# Altium footprint library Magway.PcbLib: 38 footprints (part 1 of 3)
Each footprint in its own frame and in the unit in brackets; x right, y up, seen from the top. Pads: shape width x height; smd on the part's side, far side on the other; paste and mask are expansions set on the pad; w line width, h text height; cw(c..) or ccw(c..) is an arc to the next point about the centre after c.
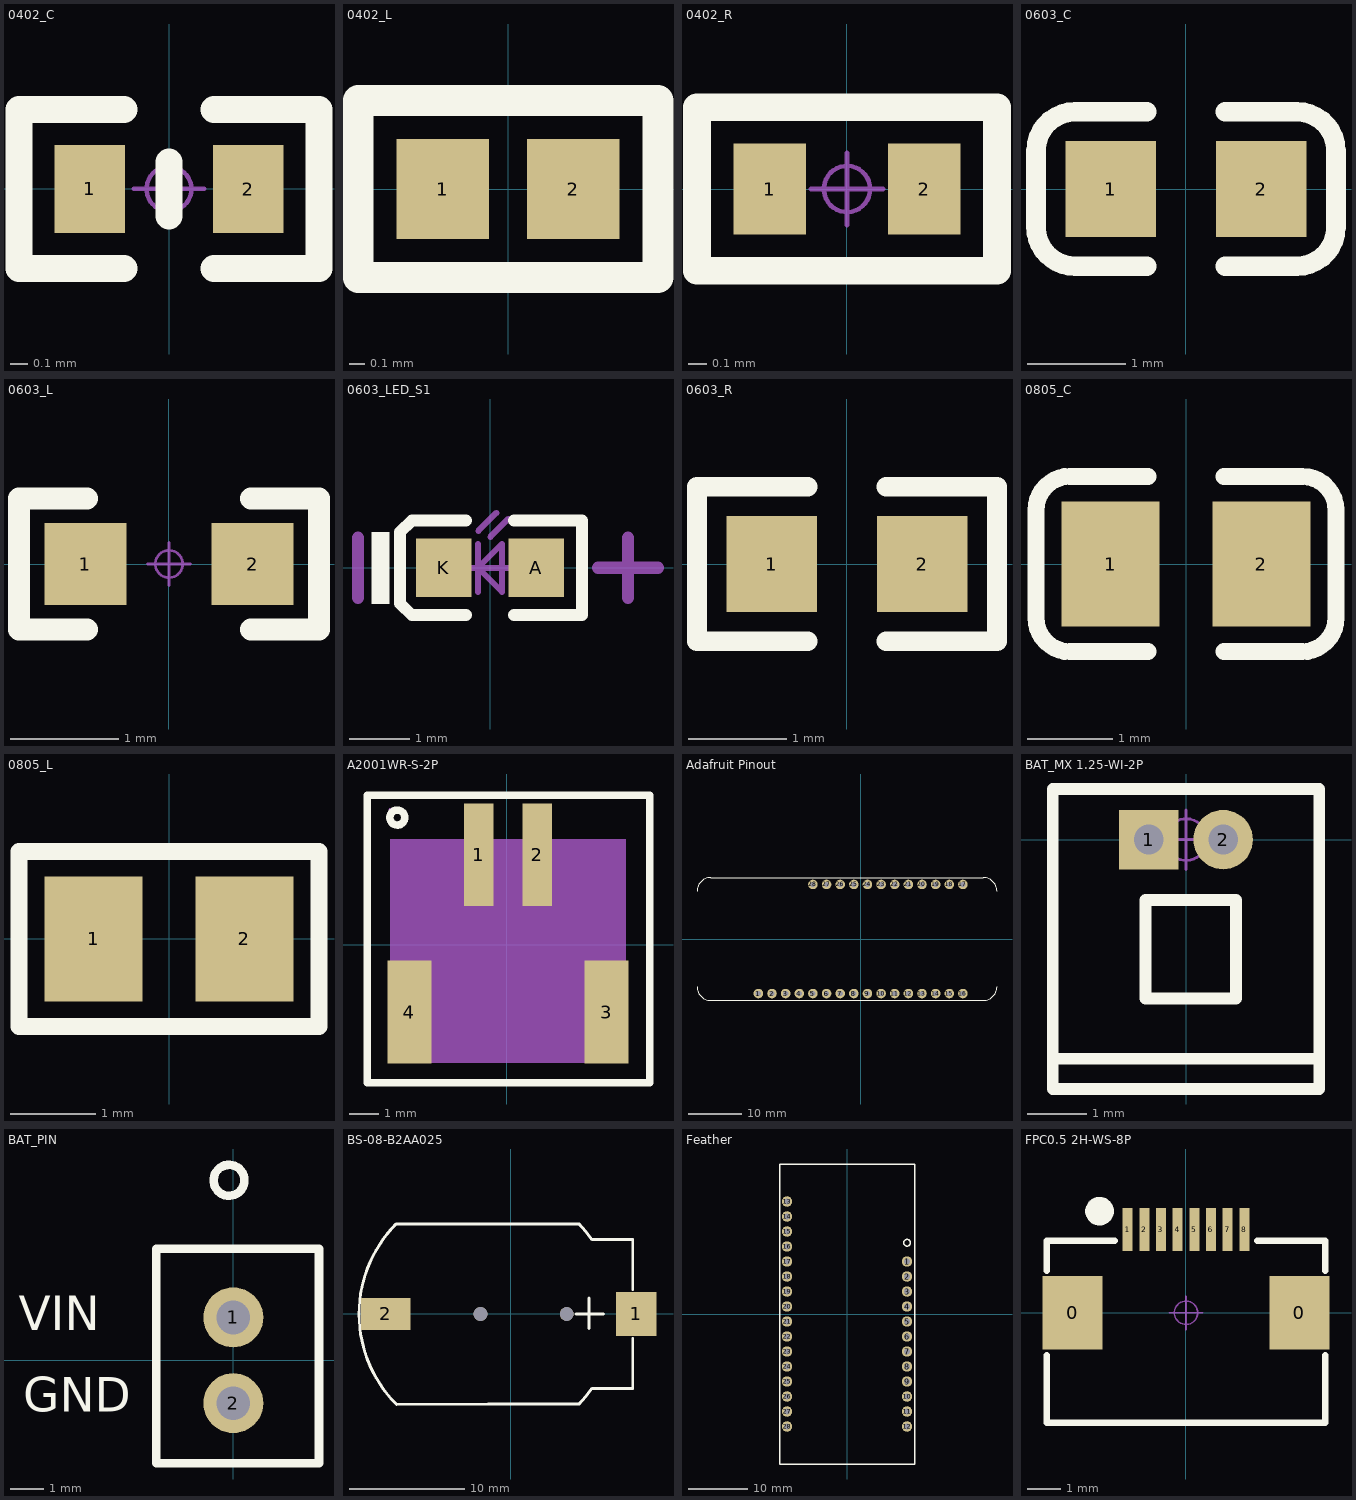
[diagram p0: the footprints below, top view; thin cyan lines are the x and y axes]

## 0402_C [mm] "无极性贴片电容"
pads (2):
  rect 0.4x0.5 smd: 1(-0.45,0) 2(0.45,0)
Top Overlay:
  lines w0.152: -0.254,-0.45 -0.85,-0.45 ; -0.254,0.45 -0.85,0.45 -0.85,-0.45 ; 0,-0.152 0,0.152 ; 0.254,-0.45 0.85,-0.45 0.85,0.45 0.254,0.45 ; -0.85,-0.45 -0.85,-0.45
Mechanical 15:
  circle w0.025: c0,0 r0.127
  lines w0.025: -0.2,0 0.2,0 ; 0,-0.2 0,0.2
3D body "C 0402.STEP": height 0.54, standoff 0.02, extent -0.5,-0.26 0.5,0.26

## 0402_L [mm]
pads (2):
  rect 0.6x0.65 smd mask+0.051: 1(-0.425,0) 2(0.425,0)
Top Overlay:
  lines w0.2: -0.975,-0.575 0.975,-0.575 0.975,0.575 -0.975,0.575 -0.975,-0.575
3D body "L0402.STEP": height 0.36, standoff -0.01, extent -0.512,-0.262 0.538,0.263

## 0402_R [mm] "1/16W贴片电阻"
pads (2):
  rect 0.4x0.5 smd: 1(-0.425,0) 2(0.425,0)
Top Overlay:
  lines w0.152: -0.825,-0.45 -0.825,0.45 0.825,0.45 0.825,-0.45 -0.825,-0.45
Mechanical 15:
  circle w0.025: c0,0 r0.127
  lines w0.025: -0.2,0 0.2,0 ; 0,-0.2 0,0.2
3D body "R0402.STEP": height 0.3, standoff 0, extent -0.5,-0.25 0.5,0.25

## 0603_C [mm]
pads (2):
  rect 0.93x0.98 smd: 1(-0.77,0) 2(0.77,0)
Top Overlay:
  lines w0.2: -0.4,-0.79 -1.135,-0.79 cw(c-1.135,-0.39) -1.535,-0.39 -1.535,0.39 cw(c-1.135,0.39) -1.135,0.79 -0.4,0.79 ; 0.4,-0.79 1.135,-0.79 ccw(c1.135,-0.39) 1.535,-0.39 1.535,0.39 ccw(c1.135,0.39) 1.135,0.79 0.4,0.79
3D body "User Library-0603 SMD Capacitor.STEP": height 0.3, standoff 0, extent -0.8,-0.4 0.8,0.4

## 0603_L [mil] "小功率贴片电感"
pads (2):
  rect 30x30 smd: 1(-30.59,0) 2(30.59,0)
Top Overlay:
  lines w8: -30,-24 -54.82,-24 -54.82,24 -30,24 ; 30,-24 54.83,-24 54.83,24 30,24
Mechanical 15:
  circle w1: c0,0 r5
  lines w1: -7.87,0 7.88,0 ; 0,-7.87 0,7.88
3D body "l0603.STEP": height 31.5, standoff 0, extent -31.49,-15.74 31.51,15.76

## 0603_LED_S1 [mm]
pads (2):
  rect 0.93x0.98 smd: A(0.77,0) K(-0.77,0)
Top Overlay:
  rectangle: -1.975,-0.6 -1.675,0.6
  lines w0.2: -0.4,-0.79 -1.3,-0.79 -1.5,-0.597 -1.5,0.597 -1.3,0.79 -0.4,0.79 ; 0.4,-0.79 1.535,-0.79 1.535,0.79 0.4,0.79
Mechanical 13:
  lines w0.1: -0.4,0 0.4,0 ; -0.2,-0.4 -0.2,0.4 ; -0.195,0.617 0.105,0.917 ; 0.005,0.517 0.305,0.817 ; -0.2,0 0.2,0.4 0.2,-0.4 -0.2,0
Mechanical 15:
  lines w0.203: -2.2,-0.5 -2.2,0.5 ; 1.8,0 2.8,0 ; 2.3,-0.5 2.3,0.5
3D body "User Library-LED_0603_R.STEP": height 0.6, standoff 0, extent -0.8,-0.4 0.8,0.4

## 0603_R [mm]
pads (2):
  rect 0.93x0.98 smd: 1(-0.77,0) 2(0.77,0)
Top Overlay:
  lines w0.2: -0.4,-0.79 -1.535,-0.79 -1.535,0.79 -0.4,0.79 ; 0.4,-0.79 1.535,-0.79 1.535,0.79 0.4,0.79
3D body "User Library-RES_1609-0603.STEP": height 0.56, standoff 0, extent -0.85,-0.4 0.85,0.4

## 0805_C [mm]
pads (2):
  rect 1.16x1.47 smd: 1(-0.89,0) 2(0.89,0)
Top Overlay:
  lines w0.2: -0.45,-1.035 -1.37,-1.035 cw(c-1.37,-0.635) -1.77,-0.635 -1.77,0.635 cw(c-1.37,0.635) -1.37,1.035 -0.45,1.035 ; 0.45,-1.035 1.37,-1.035 ccw(c1.37,-0.635) 1.77,-0.635 1.77,0.635 ccw(c1.37,0.635) 1.37,1.035 0.45,1.035
3D body "User Library-0805 SMD Capacitor.STEP": height 0.77, standoff -0.01, extent -0.999,-0.625 1.001,0.625

## 0805_L [mm]
pads (2):
  rect 1.16x1.47 smd: 1(-0.89,0) 2(0.89,0)
Top Overlay:
  lines w0.2: -1.77,-1.035 1.77,-1.035 1.77,1.035 -1.77,1.035 -1.77,-1.035
3D body "L0805.STEP": height 0.6, standoff -0.02, extent -1.022,-0.637 1.028,0.638

## A2001WR-S-2P [mm]
pads (4):
  rect 1x3.5 smd: 1(-0.952,3.064) 2(1.048,3.064)
  rect 1.5x3.5 smd: 3(3.398,-2.286) 4(-3.302,-2.286)
Top Overlay:
  circle w0.254: c-3.716,4.326 r0.254
  lines w0.254: -4.732,-4.691 -4.732,5.088 4.874,5.088 4.874,-4.691 -4.732,-4.691
Mechanical 4:
  region: -3.952,3.589 4.048,3.589 4.048,-4.011 -3.952,-4.011
Mechanical 5:
  region: 3.598,-3.686 3.198,-3.686 3.198,-0.886 3.598,-0.886
  region: -3.102,-3.686 -3.502,-3.686 -3.502,-0.886 -3.102,-0.886
  region: 1.298,2.094 0.798,2.094 0.798,4.594 1.298,4.594
  region: -0.702,2.094 -1.202,2.094 -1.202,4.594 -0.702,4.594
Mechanical 6:
  circle w0.06: c-3.952,4.594 r0.03

## Adafruit Pinout [mil]
pads (28):
  round 70 hole 39.37: 1(-750,-400) 2(-650,-400) 3(-550,-400) 4(-450,-400) 5(-350,-400) 6(-250,-400) 7(-150,-400) 8(-50,-400) 9(50,-400) 10(150,-400) 11(250,-400) 12(350,-400) 13(450,-400) 14(550,-400) 15(650,-400) 16(750,-400) 17(750,400) 18(650,400) 19(550,400) 20(450,400) 21(350,400) 22(250,400) 23(150,400) 24(50,400) 25(-50,400) 26(-150,400) 27(-250,400) 28(-350,400)
Top Overlay:
  lines w0.31: -1200,-350 ccw(c-1100,-350) -1100,-450 900,-450 ccw(c900,-350) 1000,-350 ; -1200,350 cw(c-1100,350) -1100,450 900,450 cw(c900,350) 1000,350

## BAT_MX 1.25-WI-2P [mm] "长：4.25mm，宽：1.8mm，高：3.3mm"
pads (2):
  rect 1x1 hole 0.5: 1(-0.625,0)
  round 1 hole 0.5: 2(0.625,0)
Top Overlay:
  lines w0.2: -2.239,-3.683 2.239,-3.683 ; -2.239,-4.191 2.239,-4.191 2.239,0.85 -2.239,0.85 -2.239,-4.191 ; -0.682,-2.667 0.842,-2.667 0.842,-1.016 -0.682,-1.016 -0.682,-2.667
Mechanical 15:
  circle w0.05: c0,0 r0.35
  lines w0.05: -0.5,0 0.5,0 ; 0,-0.5 0,0.5
3D body "MOLEX1.25-WI-2P.STEP": height 3.35, standoff -2.1, extent -2.125,-4.05 2.125,0.85

## BAT_PIN [mil]
pads (2):
  round 70 hole 39.37: 1(0,50) 2(0,-50)
Top Overlay:
  circle w10: c-5,210 r18.03
  lines w10: -90,-120 100,-120 100,60 100,130 -90,130 -90,-120
  text "GND" at -245,-60 h40
  text "VIN" at -250,35 h40

## BS-08-B2AA025 [mm]
pads (4):
  rect 3.5x3.8 smd: 1(10.9,0)
  rect 4.3x2.8 smd: 2(-10.9,0)
  round 1.2 hole 1.2 unplated: ""(-2.65,0) ""(4.85,0)
Top Overlay:
  lines w0.254: -9.966,-7.858 -1.973,-7.85 5.901,-7.85 ccw(c-2.1,0) 7.047,-6.479 ; -9.966,-7.858 cw(c-2.1,0) -9.974,7.85 -1.973,7.85 5.901,7.85 ; 5.647,0 8.06,0 ; 5.899,7.848 cw(c-2.1,0) 7.044,6.477 8.844,6.477 10.6,6.477 10.6,2.131 ; 6.79,-1.27 6.79,1.397 ; 7.044,-6.477 8.844,-6.477 10.6,-6.477 10.6,-2.131
Mechanical 15:
  region: -12.156,0.308 -9.482,0.308 -9.482,-0.24 -12.151,-0.24 -12.151,-0.238
  region: 10.683,-1.296 10.683,1.378 11.231,1.378 11.231,-1.291 11.229,-1.291
  region: 9.643,0.462 12.317,0.462 12.317,-0.086 9.648,-0.086 9.648,-0.084

## Feather [mil]
pads (28):
  round 70 hole 40: 1(400,350) 2(400,250) 3(400,150) 4(400,50) 5(400,-50) 6(400,-150) 7(400,-250) 8(400,-350) 9(400,-450) 10(400,-550) 11(400,-650) 12(400,-750) 13(-400,750) 14(-400,650) 15(-400,550) 16(-400,450) 17(-400,350) 18(-400,250) 19(-400,150) 20(-400,50) 21(-400,-50) 22(-400,-150) 23(-400,-250) 24(-400,-350) 25(-400,-450) 26(-400,-550) 27(-400,-650) 28(-400,-750)
Top Overlay:
  circle w10: c400,475 r22.36
  lines w10: -450,-1000 -450,1000 450,1000 450,-1000 -450,-1000

## FPC0.5 2H-WS-8P [mm] "长：8.2mm，宽：5.2mm，高：2mm 淘宝ID:黄晶宝石   店铺网址:https://shop463601444.taobao.com"
pads (10):
  rect 1.8x2.2 smd: 0(-3.4,0) 0(3.4,0)
  rect 0.3x1.3 smd: 1(-1.75,2.497) 2(-1.25,2.497) 3(-0.75,2.497) 4(-0.25,2.497) 5(0.25,2.497) 6(0.75,2.497) 7(1.25,2.497) 8(1.75,2.497)
Top Overlay:
  circle w0.5: c-2.594,3.048 r0.18
  lines w0.2: -4.175,-1.27 -4.175,-3.302 4.175,-3.302 4.175,-1.27 ; -4.175,1.27 -4.175,2.159 -2.143,2.159 ; 2.143,2.159 4.175,2.159 4.175,1.27
Mechanical 15:
  circle w0.05: c0,0 r0.35
  lines w0.05: -0.5,0 0.5,0 ; 0,-0.5 0,0.5
3D body "FPC-05FB-8PH20.SLDPRT": height 2.92, standoff -0.05, extent -3.75,-2.987 3.75,2.413